# Altium footprint library 691137710006.PcbLib: 1 footprints
Each footprint in its own frame and in the unit in brackets; x right, y up, seen from the top. Pads: shape width x height; smd on the part's side, far side on the other; paste and mask are expansions set on the pad; w line width, h text height; cw(c..) or ccw(c..) is an arc to the next point about the centre after c.
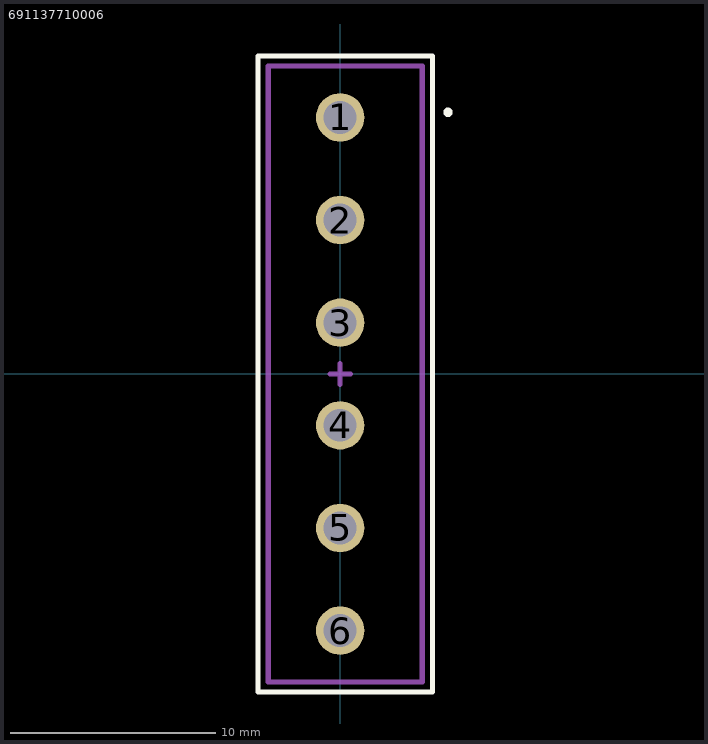
[diagram p0: the footprint, top view; thin cyan lines are the x and y axes]

## 691137710006 [mm]
pads (6):
  round 2.358 hole 1.6 mask+0.051: 1(0,12.5) 2(0,7.5) 3(0,2.5) 4(0,-2.5) 5(0,-7.5) 6(0,-12.5)
Top Overlay:
  circle w0.254: c5.25,12.75 r0.1
  lines w0.25: -4,-15.5 -4,15.5 4.5,15.5 4.5,-15.5 -4,-15.5
Mechanical 13:
  lines w0.25: -3.5,-15 4,-15 4,15 -3.5,15 -3.5,-15
Mechanical 15:
  lines w0.25: -0.5,0 0,0 ; 0,-0.5 0,0 ; 0.5,0 0,0 ; 0,0 0,0.5 0,0
3D body "691137710006.stp": height 11.5, standoff -3.6, extent -3.5,-15 4,15